# Altium footprint library TQFP.PcbLib: 14 footprints
Each footprint in its own frame and in the unit in brackets; x right, y up, seen from the top. Pads: shape width x height; smd on the part's side, far side on the other; paste and mask are expansions set on the pad; w line width, h text height; cw(c..) or ccw(c..) is an arc to the next point about the centre after c.
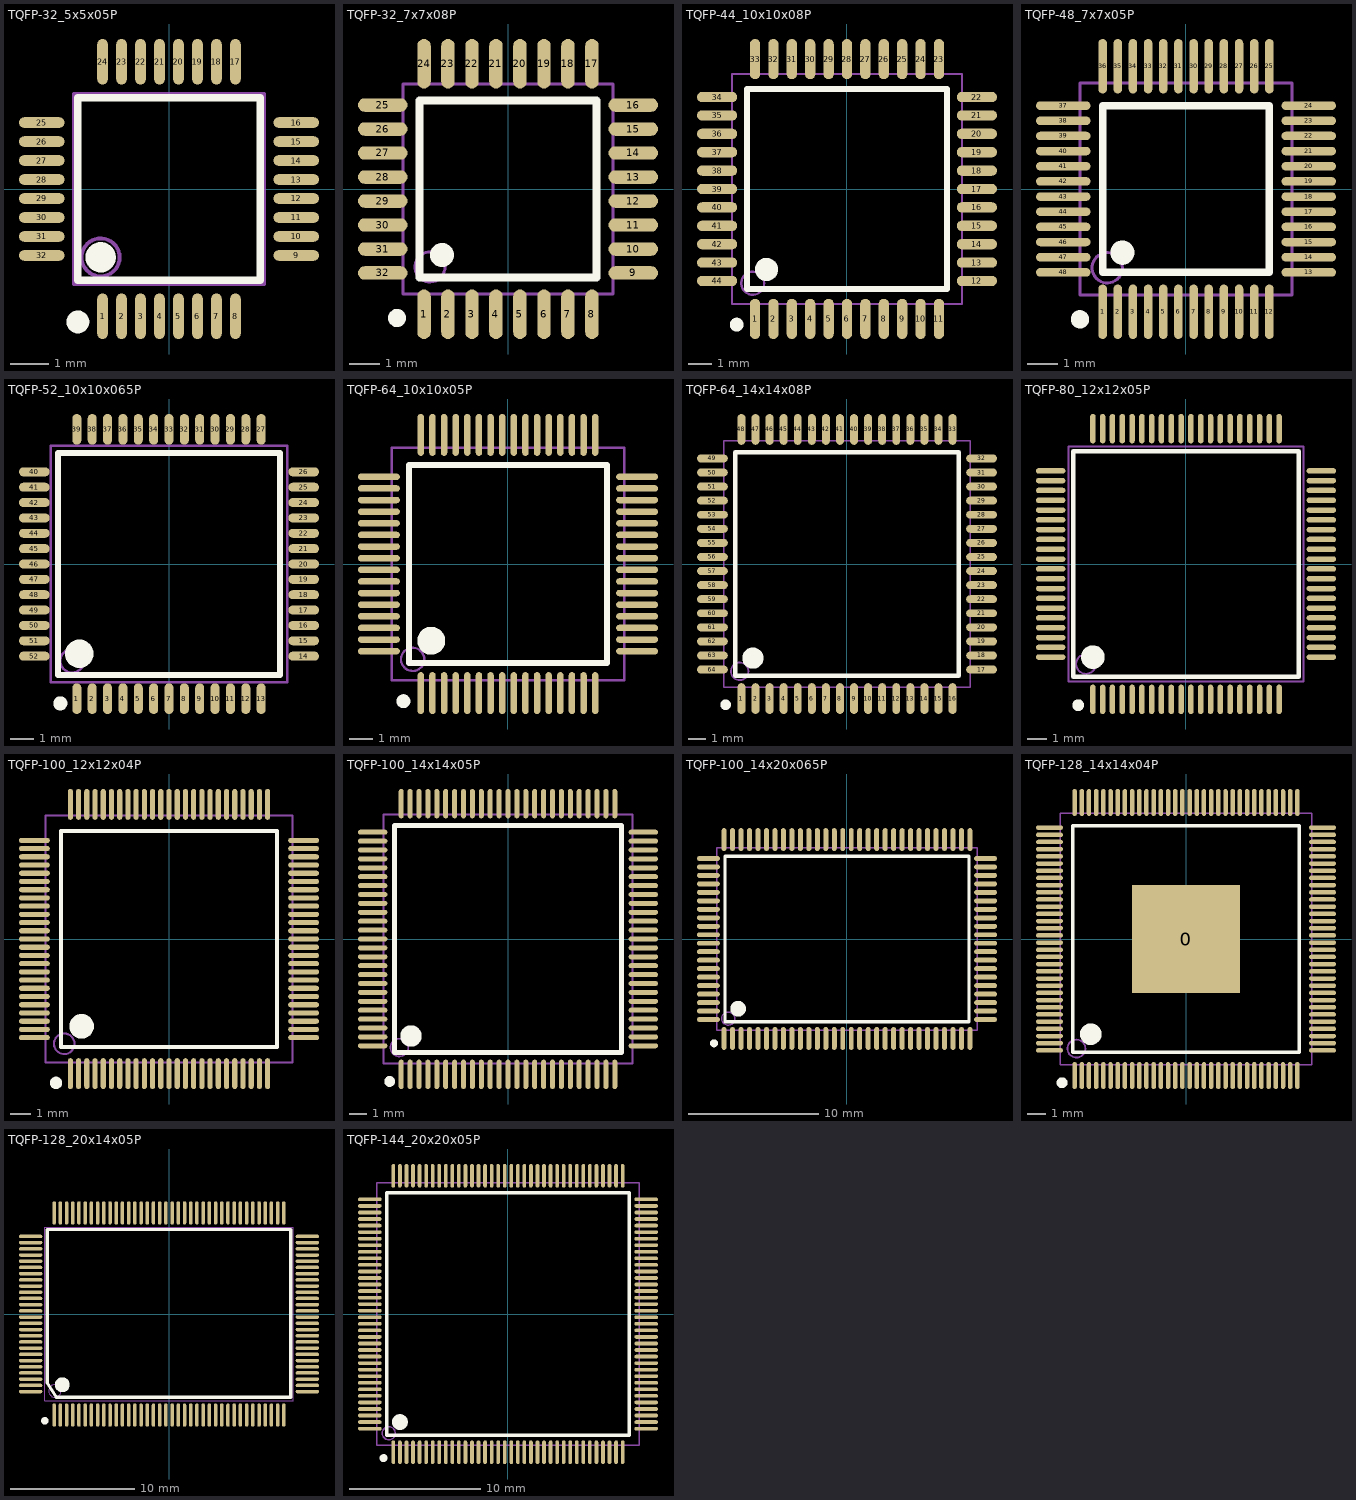
[diagram p0: the footprints below, top view; thin cyan lines are the x and y axes]

## TQFP-32_5x5x05P [mm]
pads (32):
  oval 0.28x1.2 smd mask+0.051: 1(-1.75,-3.35) 2(-1.25,-3.35) 3(-0.75,-3.35) 4(-0.25,-3.35) 5(0.25,-3.35) 6(0.75,-3.35) 7(1.25,-3.35) 8(1.75,-3.35) 17(1.75,3.35) 18(1.25,3.35) 19(0.75,3.35) 20(0.25,3.35) 21(-0.25,3.35) 22(-0.75,3.35) 23(-1.25,3.35) 24(-1.75,3.35)
  oval 1.2x0.28 smd mask+0.051: 9(3.35,-1.75) 10(3.35,-1.25) 11(3.35,-0.75) 12(3.35,-0.25) 13(3.35,0.25) 14(3.35,0.75) 15(3.35,1.25) 16(3.35,1.75) 25(-3.35,1.75) 26(-3.35,1.25) 27(-3.35,0.75) 28(-3.35,0.25) 29(-3.35,-0.25) 30(-3.35,-0.75) 31(-3.35,-1.25) 32(-3.35,-1.75)
Top Overlay:
  circle w0.3: c-2.4,-3.5 r0.15
  circle w0.4: c-1.8,-1.8 r0.2
  lines w0.2: -2.4,-2.4 -2.4,2.4 2.4,2.4 2.4,-2.4 -2.4,-2.4
Mechanical 13:
  circle w0.1: c-1.8,-1.8 r0.5
  lines w0.1: -2.5,-2.5 -2.5,2.5 2.5,2.5 2.5,-2.5 -2.5,-2.5

## TQFP-32_7x7x08P [mm]
pads (32):
  oval 0.45x1.65 smd: 1(-2.8,-4.175) 2(-2,-4.175) 3(-1.2,-4.175) 4(-0.4,-4.175) 5(0.4,-4.175) 6(1.2,-4.175) 7(2,-4.175) 8(2.8,-4.175) 17(2.8,4.175) 18(2,4.175) 19(1.2,4.175) 20(0.4,4.175) 21(-0.4,4.175) 22(-1.2,4.175) 23(-2,4.175) 24(-2.8,4.175)
  oval 1.65x0.45 smd: 9(4.175,-2.8) 10(4.175,-2) 11(4.175,-1.2) 12(4.175,-0.4) 13(4.175,0.4) 14(4.175,1.2) 15(4.175,2) 16(4.175,2.8) 25(-4.175,2.8) 26(-4.175,2) 27(-4.175,1.2) 28(-4.175,0.4) 29(-4.175,-0.4) 30(-4.175,-1.2) 31(-4.175,-2) 32(-4.175,-2.8)
Top Overlay:
  circle w0.4: c-2.2,-2.2 r0.2
  circle w0.3: c-3.7,-4.3 r0.15
  lines w0.254: -2.95,-2.95 2.95,-2.95 2.95,2.95 -2.95,2.95 -2.95,-2.95
Mechanical 13:
  circle w0.1: c-2.6,-2.6 r0.5
  lines w0.1: -3.5,-3.5 3.5,-3.5 3.5,3.5 -3.5,3.5 -3.5,-3.5
3D body "TQFP-9X9-32.STEP": height 1.6, standoff -0.05, extent -4.5,-4.5 4.5,4.5

## TQFP-44_10x10x08P [mm]
pads (44):
  oval 0.45x1.75 smd: 1(-4,-5.65) 2(-3.2,-5.65) 3(-2.4,-5.65) 4(-1.6,-5.65) 5(-0.8,-5.65) 6(0,-5.65) 7(0.8,-5.65) 8(1.6,-5.65) 9(2.4,-5.65) 10(3.2,-5.65) 11(4,-5.65) 23(4,5.65) 24(3.2,5.65) 25(2.4,5.65) 26(1.6,5.65) 27(0.8,5.65) 28(0,5.65) 29(-0.8,5.65) 30(-1.6,5.65) 31(-2.4,5.65) 32(-3.2,5.65) 33(-4,5.65)
  oval 1.75x0.45 smd: 12(5.65,-4) 13(5.65,-3.2) 14(5.65,-2.4) 15(5.65,-1.6) 16(5.65,-0.8) 17(5.65,0) 18(5.65,0.8) 19(5.65,1.6) 20(5.65,2.4) 21(5.65,3.2) 22(5.65,4) 34(-5.65,4) 35(-5.65,3.2) 36(-5.65,2.4) 37(-5.65,1.6) 38(-5.65,0.8) 39(-5.65,0) 40(-5.65,-0.8) 41(-5.65,-1.6) 42(-5.65,-2.4) 43(-5.65,-3.2) 44(-5.65,-4)
Top Overlay:
  circle w0.5: c-3.5,-3.5 r0.25
  circle w0.3: c-4.8,-5.9 r0.15
  lines w0.254: -4.35,-4.35 -4.35,4.35 4.35,4.35 4.35,-4.35 -4.35,-4.35
Mechanical 13:
  circle w0.1: c-4.1,-4.1 r0.5
  lines w0.1: -5,-5 -5,5 5,5 5,-5 -5,-5

## TQFP-48_7x7x05P [mm]
pads (48):
  oval 0.28x1.8 smd mask+0.051: 1(-2.75,-4.05) 2(-2.25,-4.05) 3(-1.75,-4.05) 4(-1.25,-4.05) 5(-0.75,-4.05) 6(-0.25,-4.05) 7(0.25,-4.05) 8(0.75,-4.05) 9(1.25,-4.05) 10(1.75,-4.05) 11(2.25,-4.05) 12(2.75,-4.05) 25(2.75,4.05) 26(2.25,4.05) 27(1.75,4.05) 28(1.25,4.05) 29(0.75,4.05) 30(0.25,4.05) 31(-0.25,4.05) 32(-0.75,4.05) 33(-1.25,4.05) 34(-1.75,4.05) 35(-2.25,4.05) 36(-2.75,4.05)
  oval 1.8x0.28 smd mask+0.051: 13(4.05,-2.75) 14(4.05,-2.25) 15(4.05,-1.75) 16(4.05,-1.25) 17(4.05,-0.75) 18(4.05,-0.25) 19(4.05,0.25) 20(4.05,0.75) 21(4.05,1.25) 22(4.05,1.75) 23(4.05,2.25) 24(4.05,2.75) 37(-4.05,2.75) 38(-4.05,2.25) 39(-4.05,1.75) 40(-4.05,1.25) 41(-4.05,0.75) 42(-4.05,0.25) 43(-4.05,-0.25) 44(-4.05,-0.75) 45(-4.05,-1.25) 46(-4.05,-1.75) 47(-4.05,-2.25) 48(-4.05,-2.75)
Top Overlay:
  circle w0.3: c-3.5,-4.3 r0.15
  circle w0.4: c-2.1,-2.1 r0.2
  lines w0.254: -2.75,-2.75 2.75,-2.75 2.75,2.75 -2.75,2.75 -2.75,-2.75
Mechanical 13:
  circle w0.1: c-2.6,-2.6 r0.5
  lines w0.1: -3.5,-3.5 3.5,-3.5 3.5,3.5 -3.5,3.5 -3.5,-3.5
3D body "QFP48P50_900X900X160L60X19.STEP": height 1.6, standoff 0, extent -4.5,-4.5 4.5,4.5

## TQFP-52_10x10x065P [mm]
pads (52):
  oval 0.38x1.3 smd mask+0.051: 1(-3.9,-5.7) 2(-3.25,-5.7) 3(-2.6,-5.7) 4(-1.95,-5.7) 5(-1.3,-5.7) 6(-0.65,-5.7) 7(0,-5.7) 8(0.65,-5.7) 9(1.3,-5.7) 10(1.95,-5.7) 11(2.6,-5.7) 12(3.25,-5.7) 13(3.9,-5.7) 27(3.9,5.7) 28(3.25,5.7) 29(2.6,5.7) 30(1.95,5.7) 31(1.3,5.7) 32(0.65,5.7) 33(0,5.7) 34(-0.65,5.7) 35(-1.3,5.7) 36(-1.95,5.7) 37(-2.6,5.7) 38(-3.25,5.7) 39(-3.9,5.7)
  oval 1.3x0.38 smd mask+0.051: 14(5.7,-3.9) 15(5.7,-3.25) 16(5.7,-2.6) 17(5.7,-1.95) 18(5.7,-1.3) 19(5.7,-0.65) 20(5.7,0) 21(5.7,0.65) 22(5.7,1.3) 23(5.7,1.95) 24(5.7,2.6) 25(5.7,3.25) 26(5.7,3.9) 40(-5.7,3.9) 41(-5.7,3.25) 42(-5.7,2.6) 43(-5.7,1.95) 44(-5.7,1.3) 45(-5.7,0.65) 46(-5.7,0) 47(-5.7,-0.65) 48(-5.7,-1.3) 49(-5.7,-1.95) 50(-5.7,-2.6) 51(-5.7,-3.25) 52(-5.7,-3.9)
Top Overlay:
  circle w0.6: c-3.8,-3.8 r0.3
  circle w0.3: c-4.6,-5.9 r0.15
  lines w0.254: -4.7,-4.7 4.7,-4.7 4.7,4.7 -4.7,4.7 -4.7,-4.7
Mechanical 13:
  circle w0.1: c-4.1,-4.1 r0.5
  lines w0.1: -5,-5 5,-5 5,5 -5,5 -5,-5

## TQFP-64_10x10x05P [mm]
pads (64):
  oval 0.28x1.8 smd mask+0.051: 1(-3.75,-5.55) 2(-3.25,-5.55) 3(-2.75,-5.55) 4(-2.25,-5.55) 5(-1.75,-5.55) 6(-1.25,-5.55) 7(-0.75,-5.55) 8(-0.25,-5.55) 9(0.25,-5.55) 10(0.75,-5.55) 11(1.25,-5.55) 12(1.75,-5.55) 13(2.25,-5.55) 14(2.75,-5.55) 15(3.25,-5.55) 16(3.75,-5.55) 33(3.75,5.55) 34(3.25,5.55) 35(2.75,5.55) 36(2.25,5.55) 37(1.75,5.55) 38(1.25,5.55) 39(0.75,5.55) 40(0.25,5.55) 41(-0.25,5.55) 42(-0.75,5.55) 43(-1.25,5.55) 44(-1.75,5.55) 45(-2.25,5.55) 46(-2.75,5.55) 47(-3.25,5.55) 48(-3.75,5.55)
  oval 1.8x0.28 smd mask+0.051: 17(5.55,-3.75) 18(5.55,-3.25) 19(5.55,-2.75) 20(5.55,-2.25) 21(5.55,-1.75) 22(5.55,-1.25) 23(5.55,-0.75) 24(5.55,-0.25) 25(5.55,0.25) 26(5.55,0.75) 27(5.55,1.25) 28(5.55,1.75) 29(5.55,2.25) 30(5.55,2.75) 31(5.55,3.25) 32(5.55,3.75) 49(-5.55,3.75) 50(-5.55,3.25) 51(-5.55,2.75) 52(-5.55,2.25) 53(-5.55,1.75) 54(-5.55,1.25) 55(-5.55,0.75) 56(-5.55,0.25) 57(-5.55,-0.25) 58(-5.55,-0.75) 59(-5.55,-1.25) 60(-5.55,-1.75) 61(-5.55,-2.25) 62(-5.55,-2.75) 63(-5.55,-3.25) 64(-5.55,-3.75)
Top Overlay:
  circle w0.3: c-4.5,-5.9 r0.15
  circle w0.6: c-3.3,-3.3 r0.3
  lines w0.254: -4.25,-4.25 -4.25,4.25 4.25,4.25 4.25,-4.25 -4.25,-4.25
Mechanical 13:
  circle w0.1: c-4.1,-4.1 r0.5
  lines w0.1: -5,-5 -5,5 5,5 5,-5 -5,-5
3D body "TQFP-64.STEP": height 1.1, standoff 0, extent -6.017,-6.009 6,6.009

## TQFP-64_14x14x08P [mm]
pads (64):
  oval 0.45x1.75 smd: 1(-6,-7.65) 2(-5.2,-7.65) 3(-4.4,-7.65) 4(-3.6,-7.65) 5(-2.8,-7.65) 6(-2,-7.65) 7(-1.2,-7.65) 8(-0.4,-7.65) 9(0.4,-7.65) 10(1.2,-7.65) 11(2,-7.65) 12(2.8,-7.65) 13(3.6,-7.65) 14(4.4,-7.65) 15(5.2,-7.65) 16(6,-7.65) 33(6,7.65) 34(5.2,7.65) 35(4.4,7.65) 36(3.6,7.65) 37(2.8,7.65) 38(2,7.65) 39(1.2,7.65) 40(0.4,7.65) 41(-0.4,7.65) 42(-1.2,7.65) 43(-2,7.65) 44(-2.8,7.65) 45(-3.6,7.65) 46(-4.4,7.65) 47(-5.2,7.65) 48(-6,7.65)
  oval 1.75x0.45 smd: 17(7.65,-6) 18(7.65,-5.2) 19(7.65,-4.4) 20(7.65,-3.6) 21(7.65,-2.8) 22(7.65,-2) 23(7.65,-1.2) 24(7.65,-0.4) 25(7.65,0.4) 26(7.65,1.2) 27(7.65,2) 28(7.65,2.8) 29(7.65,3.6) 30(7.65,4.4) 31(7.65,5.2) 32(7.65,6) 49(-7.65,6) 50(-7.65,5.2) 51(-7.65,4.4) 52(-7.65,3.6) 53(-7.65,2.8) 54(-7.65,2) 55(-7.65,1.2) 56(-7.65,0.4) 57(-7.65,-0.4) 58(-7.65,-1.2) 59(-7.65,-2) 60(-7.65,-2.8) 61(-7.65,-3.6) 62(-7.65,-4.4) 63(-7.65,-5.2) 64(-7.65,-6)
Top Overlay:
  circle w0.3: c-6.9,-8 r0.15
  circle w0.6: c-5.35,-5.35 r0.3
  lines w0.254: -6.35,-6.35 -6.35,6.35 6.35,6.35 6.35,-6.35 -6.35,-6.35
Mechanical 13:
  circle w0.1: c-6.1,-6.1 r0.5
  lines w0.1: -7,-7 -7,7 7,7 7,-7 -7,-7

## TQFP-80_12x12x05P [mm]
pads (81):
  oval 0.28x1.5 smd mask+0.051: 1(-4.75,-6.9) 2(-4.25,-6.9) 3(-3.75,-6.9) 4(-3.25,-6.9) 5(-2.75,-6.9) 6(-2.25,-6.9) 7(-1.75,-6.9) 8(-1.25,-6.9) 9(-0.75,-6.9) 10(-0.25,-6.9) 11(0.25,-6.9) 12(0.75,-6.9) 13(1.25,-6.9) 14(1.75,-6.9) 15(2.25,-6.9) 16(2.75,-6.9) 17(3.25,-6.9) 18(3.75,-6.9) 19(4.25,-6.9) 20(4.75,-6.9) 41(4.75,6.9) 42(4.25,6.9) 43(3.75,6.9) 44(3.25,6.9) 45(2.75,6.9) 46(2.25,6.9) 47(1.75,6.9) 48(1.25,6.9) 49(0.75,6.9) 50(0.25,6.9) 51(-0.25,6.9) 52(-0.75,6.9) 53(-1.25,6.9) 54(-1.75,6.9) 55(-2.25,6.9) 56(-2.75,6.9) 57(-3.25,6.9) 58(-3.75,6.9) 59(-4.25,6.9) 60(-4.75,6.9)
  oval 1.5x0.28 smd mask+0.051: 21(6.9,-4.75) 22(6.9,-4.25) 23(6.9,-3.75) 24(6.9,-3.25) 25(6.9,-2.75) 26(6.9,-2.25) 27(6.9,-1.75) 28(6.9,-1.25) 29(6.9,-0.75) 30(6.9,-0.25) 31(6.9,0.25) 32(6.9,0.75) 33(6.9,1.25) 34(6.9,1.75) 35(6.9,2.25) 36(6.9,2.75) 37(6.9,3.25) 38(6.9,3.75) 39(6.9,4.25) 40(6.9,4.75) 61(-6.9,4.75) 62(-6.9,4.25) 63(-6.9,3.75) 64(-6.9,3.25) 65(-6.9,2.75) 66(-6.9,2.25) 67(-6.9,1.75) 68(-6.9,1.25) 69(-6.9,0.75) 70(-6.9,0.25) 71(-6.9,-0.25) 72(-6.9,-0.75) 73(-6.9,-1.25) 74(-6.9,-1.75) 75(-6.9,-2.25) 76(-6.9,-2.75) 77(-6.9,-3.25) 78(-6.9,-3.75) 79(-6.9,-4.25) 80(-6.9,-4.75)
  oval 1.5x0 smd mask+0.051: 74(-6.9,-1.75)
Top Overlay:
  circle w0.3: c-5.5,-7.2 r0.15
  circle w0.6: c-4.75,-4.75 r0.3
  lines w0.254: -5.75,-5.75 -5.75,5.75 5.75,5.75 5.75,-5.75 -5.75,-5.75
Mechanical 13:
  circle w0.1: c-5.1,-5.1 r0.5
  lines w0.1: -6,-6 -6,6 6,6 6,-6 -6,-6

## TQFP-100_12x12x04P [mm]
pads (100):
  oval 0.25x1.5 smd mask+0.051: 1(-4.8,-6.55) 2(-4.4,-6.55) 3(-4,-6.55) 4(-3.6,-6.55) 5(-3.2,-6.55) 6(-2.8,-6.55) 7(-2.4,-6.55) 8(-2,-6.55) 9(-1.6,-6.55) 10(-1.2,-6.55) 11(-0.8,-6.55) 12(-0.4,-6.55) 13(0,-6.55) 14(0.4,-6.55) 15(0.8,-6.55) 16(1.2,-6.55) 17(1.6,-6.55) 18(2,-6.55) 19(2.4,-6.55) 20(2.8,-6.55) 21(3.2,-6.55) 22(3.6,-6.55) 23(4,-6.55) 24(4.4,-6.55) 25(4.8,-6.55) 51(4.8,6.55) 52(4.4,6.55) 53(4,6.55) 54(3.6,6.55) 55(3.2,6.55) 56(2.8,6.55) 57(2.4,6.55) 58(2,6.55) 59(1.6,6.55) 60(1.2,6.55) 61(0.8,6.55) 62(0.4,6.55) 63(0,6.55) 64(-0.4,6.55) 65(-0.8,6.55) 66(-1.2,6.55) 67(-1.6,6.55) 68(-2,6.55) 69(-2.4,6.55) 70(-2.8,6.55) 71(-3.2,6.55) 72(-3.6,6.55) 73(-4,6.55) 74(-4.4,6.55) 75(-4.8,6.55)
  oval 1.5x0.25 smd mask+0.051: 26(6.55,-4.8) 27(6.55,-4.4) 28(6.55,-4) 29(6.55,-3.6) 30(6.55,-3.2) 31(6.55,-2.8) 32(6.55,-2.4) 33(6.55,-2) 34(6.55,-1.6) 35(6.55,-1.2) 36(6.55,-0.8) 37(6.55,-0.4) 38(6.55,0) 39(6.55,0.4) 40(6.55,0.8) 41(6.55,1.2) 42(6.55,1.6) 43(6.55,2) 44(6.55,2.4) 45(6.55,2.8) 46(6.55,3.2) 47(6.55,3.6) 48(6.55,4) 49(6.55,4.4) 50(6.55,4.8) 76(-6.55,4.8) 77(-6.55,4.4) 78(-6.55,4) 79(-6.55,3.6) 80(-6.55,3.2) 81(-6.55,2.8) 82(-6.55,2.4) 83(-6.55,2) 84(-6.55,1.6) 85(-6.55,1.2) 86(-6.55,0.8) 87(-6.55,0.4) 88(-6.55,0) 89(-6.55,-0.4) 90(-6.55,-0.8) 91(-6.55,-1.2) 92(-6.55,-1.6) 93(-6.55,-2) 94(-6.55,-2.4) 95(-6.55,-2.8) 96(-6.55,-3.2) 97(-6.55,-3.6) 98(-6.55,-4) 99(-6.55,-4.4) 100(-6.55,-4.8)
Top Overlay:
  circle w0.6: c-4.25,-4.25 r0.3
  circle w0.3: c-5.5,-7 r0.15
  lines w0.2: -5.25,-5.25 5.25,-5.25 5.25,5.25 -5.25,5.25 -5.25,-5.25
Mechanical 13:
  circle w0.1: c-5.1,-5.1 r0.5
  lines w0.1: -6,-6 6,-6 6,6 -6,6 -6,-6

## TQFP-100_14x14x05P [mm]
pads (100):
  oval 0.28x1.65 smd mask+0.051: 1(-6,-7.6) 2(-5.5,-7.6) 3(-5,-7.6) 4(-4.5,-7.6) 5(-4,-7.6) 6(-3.5,-7.6) 7(-3,-7.6) 8(-2.5,-7.6) 9(-2,-7.6) 10(-1.5,-7.6) 11(-1,-7.6) 12(-0.5,-7.6) 13(0,-7.6) 14(0.5,-7.6) 15(1,-7.6) 16(1.5,-7.6) 17(2,-7.6) 18(2.5,-7.6) 19(3,-7.6) 20(3.5,-7.6) 21(4,-7.6) 22(4.5,-7.6) 23(5,-7.6) 24(5.5,-7.6) 25(6,-7.6) 51(6,7.6) 52(5.5,7.6) 53(5,7.6) 54(4.5,7.6) 55(4,7.6) 56(3.5,7.6) 57(3,7.6) 58(2.5,7.6) 59(2,7.6) 60(1.5,7.6) 61(1,7.6) 62(0.5,7.6) 63(0,7.6) 64(-0.5,7.6) 65(-1,7.6) 66(-1.5,7.6) 67(-2,7.6) 68(-2.5,7.6) 69(-3,7.6) 70(-3.5,7.6) 71(-4,7.6) 72(-4.5,7.6) 73(-5,7.6) 74(-5.5,7.6) 75(-6,7.6)
  oval 1.65x0.28 smd mask+0.051: 26(7.6,-6) 27(7.6,-5.5) 28(7.6,-5) 29(7.6,-4.5) 30(7.6,-4) 31(7.6,-3.5) 32(7.6,-3) 33(7.6,-2.5) 34(7.6,-2) 35(7.6,-1.5) 36(7.6,-1) 37(7.6,-0.5) 38(7.6,0) 39(7.6,0.5) 40(7.6,1) 41(7.6,1.5) 42(7.6,2) 43(7.6,2.5) 44(7.6,3) 45(7.6,3.5) 46(7.6,4) 47(7.6,4.5) 48(7.6,5) 49(7.6,5.5) 50(7.6,6) 76(-7.6,6) 77(-7.6,5.5) 78(-7.6,5) 79(-7.6,4.5) 80(-7.6,4) 81(-7.6,3.5) 82(-7.6,3) 83(-7.6,2.5) 84(-7.6,2) 85(-7.6,1.5) 86(-7.6,1) 87(-7.6,0.5) 88(-7.6,0) 89(-7.6,-0.5) 90(-7.6,-1) 91(-7.6,-1.5) 92(-7.6,-2) 93(-7.6,-2.5) 94(-7.6,-3) 95(-7.6,-3.5) 96(-7.6,-4) 97(-7.6,-4.5) 98(-7.6,-5) 99(-7.6,-5.5) 100(-7.6,-6)
Top Overlay:
  circle w0.3: c-6.65,-8 r0.15
  circle w0.6: c-5.45,-5.45 r0.3
  lines w0.254: -6.375,-6.375 6.375,-6.375 6.375,6.375 -6.375,6.375 -6.375,-6.375
Mechanical 13:
  circle w0.1: c-6.1,-6.1 r0.5
  lines w0.1: -7,-7 7,-7 7,7 -7,7 -7,-7

## TQFP-100_14x20x065P [mm]
pads (100):
  oval 0.38x1.75 smd mask+0.051: 1(-9.425,-7.625) 2(-8.775,-7.625) 3(-8.125,-7.625) 4(-7.475,-7.625) 5(-6.825,-7.625) 6(-6.175,-7.625) 7(-5.525,-7.625) 8(-4.875,-7.625) 9(-4.225,-7.625) 10(-3.575,-7.625) 11(-2.925,-7.625) 12(-2.275,-7.625) 13(-1.625,-7.625) 14(-0.975,-7.625) 15(-0.325,-7.625) 16(0.325,-7.625) 17(0.975,-7.625) 18(1.625,-7.625) 19(2.275,-7.625) 20(2.925,-7.625) 21(3.575,-7.625) 22(4.225,-7.625) 23(4.875,-7.625) 24(5.525,-7.625) 25(6.175,-7.625) 26(6.825,-7.625) 27(7.475,-7.625) 28(8.125,-7.625) 29(8.775,-7.625) 30(9.425,-7.625) 51(9.425,7.625) 52(8.775,7.625) 53(8.125,7.625) 54(7.475,7.625) 55(6.825,7.625) 56(6.175,7.625) 57(5.525,7.625) 58(4.875,7.625) 59(4.225,7.625) 60(3.575,7.625) 61(2.925,7.625) 62(2.275,7.625) 63(1.625,7.625) 64(0.975,7.625) 65(0.325,7.625) 66(-0.325,7.625) 67(-0.975,7.625) 68(-1.625,7.625) 69(-2.275,7.625) 70(-2.925,7.625) 71(-3.575,7.625) 72(-4.225,7.625) 73(-4.875,7.625) 74(-5.525,7.625) 75(-6.175,7.625) 76(-6.825,7.625) 77(-7.475,7.625) 78(-8.125,7.625) 79(-8.775,7.625) 80(-9.425,7.625)
  oval 1.75x0.38 smd mask+0.051: 31(10.625,-6.175) 32(10.625,-5.525) 33(10.625,-4.875) 34(10.625,-4.225) 35(10.625,-3.575) 36(10.625,-2.925) 37(10.625,-2.275) 38(10.625,-1.625) 39(10.625,-0.975) 40(10.625,-0.325) 41(10.625,0.325) 42(10.625,0.975) 43(10.625,1.625) 44(10.625,2.275) 45(10.625,2.925) 46(10.625,3.575) 47(10.625,4.225) 48(10.625,4.875) 49(10.625,5.525) 50(10.625,6.175) 81(-10.625,6.175) 82(-10.625,5.525) 83(-10.625,4.875) 84(-10.625,4.225) 85(-10.625,3.575) 86(-10.625,2.925) 87(-10.625,2.275) 88(-10.625,1.625) 89(-10.625,0.975) 90(-10.625,0.325) 91(-10.625,-0.325) 92(-10.625,-0.975) 93(-10.625,-1.625) 94(-10.625,-2.275) 95(-10.625,-2.925) 96(-10.625,-3.575) 97(-10.625,-4.225) 98(-10.625,-4.875) 99(-10.625,-5.525) 100(-10.625,-6.175)
Top Overlay:
  circle w0.6: c-8.35,-5.35 r0.3
  circle w0.3: c-10.2,-8 r0.15
  lines w0.254: -9.35,-6.35 -9.35,6.35 9.35,6.35 9.35,-6.35 -9.35,-6.35
Mechanical 13:
  circle w0.1: c-9.1,-6.1 r0.5
  lines w0.1: -10,-7 -10,7 10,7 10,-7 -10,-7

## TQFP-128_14x14x04P [mm]
pads (129):
  rect 6x6 smd mask+0.051: 0(0,0)
  oval 0.25x1.5 smd mask+0.051: 1(-6.2,-7.6) 2(-5.8,-7.6) 3(-5.4,-7.6) 4(-5,-7.6) 5(-4.6,-7.6) 6(-4.2,-7.6) 7(-3.8,-7.6) 8(-3.4,-7.6) 9(-3,-7.6) 10(-2.6,-7.6) 11(-2.2,-7.6) 12(-1.8,-7.6) 13(-1.4,-7.6) 14(-1,-7.6) 15(-0.6,-7.6) 16(-0.2,-7.6) 17(0.2,-7.6) 18(0.6,-7.6) 19(1,-7.6) 20(1.4,-7.6) 21(1.8,-7.6) 22(2.2,-7.6) 23(2.6,-7.6) 24(3,-7.6) 25(3.4,-7.6) 26(3.8,-7.6) 27(4.2,-7.6) 28(4.6,-7.6) 29(5,-7.6) 30(5.4,-7.6) 31(5.8,-7.6) 32(6.2,-7.6) 65(6.2,7.6) 66(5.8,7.6) 67(5.4,7.6) 68(5,7.6) 69(4.6,7.6) 70(4.2,7.6) 71(3.8,7.6) 72(3.4,7.6) 73(3,7.6) 74(2.6,7.6) 75(2.2,7.6) 76(1.8,7.6) 77(1.4,7.6) 78(1,7.6) 79(0.6,7.6) 80(0.2,7.6) 81(-0.2,7.6) 82(-0.6,7.6) 83(-1,7.6) 84(-1.4,7.6) 85(-1.8,7.6) 86(-2.2,7.6) 87(-2.6,7.6) 88(-3,7.6) 89(-3.4,7.6) 90(-3.8,7.6) 91(-4.2,7.6) 92(-4.6,7.6) 93(-5,7.6) 94(-5.4,7.6) 95(-5.8,7.6) 96(-6.2,7.6)
  oval 1.5x0.25 smd mask+0.051: 33(7.6,-6.2) 34(7.6,-5.8) 35(7.6,-5.4) 36(7.6,-5) 37(7.6,-4.6) 38(7.6,-4.2) 39(7.6,-3.8) 40(7.6,-3.4) 41(7.6,-3) 42(7.6,-2.6) 43(7.6,-2.2) 44(7.6,-1.8) 45(7.6,-1.4) 46(7.6,-1) 47(7.6,-0.6) 48(7.6,-0.2) 49(7.6,0.2) 50(7.6,0.6) 51(7.6,1) 52(7.6,1.4) 53(7.6,1.8) 54(7.6,2.2) 55(7.6,2.6) 56(7.6,3) 57(7.6,3.4) 58(7.6,3.8) 59(7.6,4.2) 60(7.6,4.6) 61(7.6,5) 62(7.6,5.4) 63(7.6,5.8) 64(7.6,6.2) 97(-7.6,6.2) 98(-7.6,5.8) 99(-7.6,5.4) 100(-7.6,5) 101(-7.6,4.6) 102(-7.6,4.2) 103(-7.6,3.8) 104(-7.6,3.4) 105(-7.6,3) 106(-7.6,2.6) 107(-7.6,2.2) 108(-7.6,1.8) 109(-7.6,1.4) 110(-7.6,1) 111(-7.6,0.6) 112(-7.6,0.2) 113(-7.6,-0.2) 114(-7.6,-0.6) 115(-7.6,-1) 116(-7.6,-1.4) 117(-7.6,-1.8) 118(-7.6,-2.2) 119(-7.6,-2.6) 120(-7.6,-3) 121(-7.6,-3.4) 122(-7.6,-3.8) 123(-7.6,-4.2) 124(-7.6,-4.6) 125(-7.6,-5) 126(-7.6,-5.4) 127(-7.6,-5.8) 128(-7.6,-6.2)
Top Overlay:
  circle w0.6: c-5.3,-5.3 r0.3
  circle w0.3: c-6.9,-8 r0.15
  lines w0.2: -6.3,-6.3 -6.3,6.3 6.3,6.3 6.3,-6.3 -6.3,-6.3
Mechanical 13:
  circle w0.1: c-6.1,-6.1 r0.5
  lines w0.1: -7,-7 -7,7 7,7 7,-7 -7,-7

## TQFP-128_20x14x05P [mm]
pads (128):
  oval 0.28x1.88 smd mask+0.051: 1(-9.25,-8.14) 2(-8.75,-8.14) 3(-8.25,-8.14) 4(-7.75,-8.14) 5(-7.25,-8.14) 6(-6.75,-8.14) 7(-6.25,-8.14) 8(-5.75,-8.14) 9(-5.25,-8.14) 10(-4.75,-8.14) 11(-4.25,-8.14) 12(-3.75,-8.14) 13(-3.25,-8.14) 14(-2.75,-8.14) 15(-2.25,-8.14) 16(-1.75,-8.14) 17(-1.25,-8.14) 18(-0.75,-8.14) 19(-0.25,-8.14) 20(0.25,-8.14) 21(0.75,-8.14) 22(1.25,-8.14) 23(1.75,-8.14) 24(2.25,-8.14) 25(2.75,-8.14) 26(3.25,-8.14) 27(3.75,-8.14) 28(4.25,-8.14) 29(4.75,-8.14) 30(5.25,-8.14) 31(5.75,-8.14) 32(6.25,-8.14) 33(6.75,-8.14) 34(7.25,-8.14) 35(7.75,-8.14) 36(8.25,-8.14) 37(8.75,-8.14) 38(9.25,-8.14) 65(9.25,8.14) 66(8.75,8.14) 67(8.25,8.14) 68(7.75,8.14) 69(7.25,8.14) 70(6.75,8.14) 71(6.25,8.14) 72(5.75,8.14) 73(5.25,8.14) 74(4.75,8.14) 75(4.25,8.14) 76(3.75,8.14) 77(3.25,8.14) 78(2.75,8.14) 79(2.25,8.14) 80(1.75,8.14) 81(1.25,8.14) 82(0.75,8.14) 83(0.25,8.14) 84(-0.25,8.14) 85(-0.75,8.14) 86(-1.25,8.14) 87(-1.75,8.14) 88(-2.25,8.14) 89(-2.75,8.14) 90(-3.25,8.14) 91(-3.75,8.14) 92(-4.25,8.14) 93(-4.75,8.14) 94(-5.25,8.14) 95(-5.75,8.14) 96(-6.25,8.14) 97(-6.75,8.14) 98(-7.25,8.14) 99(-7.75,8.14) 100(-8.25,8.14) 101(-8.75,8.14) 102(-9.25,8.14)
  oval 1.88x0.28 smd mask+0.051: 39(11.14,-6.25) 40(11.14,-5.75) 41(11.14,-5.25) 42(11.14,-4.75) 43(11.14,-4.25) 44(11.14,-3.75) 45(11.14,-3.25) 46(11.14,-2.75) 47(11.14,-2.25) 48(11.14,-1.75) 49(11.14,-1.25) 50(11.14,-0.75) 51(11.14,-0.25) 52(11.14,0.25) 53(11.14,0.75) 54(11.14,1.25) 55(11.14,1.75) 56(11.14,2.25) 57(11.14,2.75) 58(11.14,3.25) 59(11.14,3.75) 60(11.14,4.25) 61(11.14,4.75) 62(11.14,5.25) 63(11.14,5.75) 64(11.14,6.25) 103(-11.14,6.25) 104(-11.14,5.75) 105(-11.14,5.25) 106(-11.14,4.75) 107(-11.14,4.25) 108(-11.14,3.75) 109(-11.14,3.25) 110(-11.14,2.75) 111(-11.14,2.25) 112(-11.14,1.75) 113(-11.14,1.25) 114(-11.14,0.75) 115(-11.14,0.25) 116(-11.14,-0.25) 117(-11.14,-0.75) 118(-11.14,-1.25) 119(-11.14,-1.75) 120(-11.14,-2.25) 121(-11.14,-2.75) 122(-11.14,-3.25) 123(-11.14,-3.75) 124(-11.14,-4.25) 125(-11.14,-4.75) 126(-11.14,-5.25) 127(-11.14,-5.75) 128(-11.14,-6.25)
Top Overlay:
  circle w0.6: c-8.6,-5.7 r0.3
  circle w0.3: c-10,-8.6 r0.15
  lines w0.254: -9.8,-5.56 -9.087,-6.7 9.8,-6.7 9.8,6.8 -9.8,6.8 -9.8,-5.56
Mechanical 13:
  circle w0.1: c-9.2,-6.2 r0.5
  lines w0.1: -10,-7 10,-7 10,7 -10,7 -10,-7

## TQFP-144_20x20x05P [mm]
pads (144):
  oval 0.28x1.8 smd mask+0.051: 1(-8.75,-10.55) 2(-8.25,-10.55) 3(-7.75,-10.55) 4(-7.25,-10.55) 5(-6.75,-10.55) 6(-6.25,-10.55) 7(-5.75,-10.55) 8(-5.25,-10.55) 9(-4.75,-10.55) 10(-4.25,-10.55) 11(-3.75,-10.55) 12(-3.25,-10.55) 13(-2.75,-10.55) 14(-2.25,-10.55) 15(-1.75,-10.55) 16(-1.25,-10.55) 17(-0.75,-10.55) 18(-0.25,-10.55) 19(0.25,-10.55) 20(0.75,-10.55) 21(1.25,-10.55) 22(1.75,-10.55) 23(2.25,-10.55) 24(2.75,-10.55) 25(3.25,-10.55) 26(3.75,-10.55) 27(4.25,-10.55) 28(4.75,-10.55) 29(5.25,-10.55) 30(5.75,-10.55) 31(6.25,-10.55) 32(6.75,-10.55) 33(7.25,-10.55) 34(7.75,-10.55) 35(8.25,-10.55) 36(8.75,-10.55) 73(8.75,10.55) 74(8.25,10.55) 75(7.75,10.55) 76(7.25,10.55) 77(6.75,10.55) 78(6.25,10.55) 79(5.75,10.55) 80(5.25,10.55) 81(4.75,10.55) 82(4.25,10.55) 83(3.75,10.55) 84(3.25,10.55) 85(2.75,10.55) 86(2.25,10.55) 87(1.75,10.55) 88(1.25,10.55) 89(0.75,10.55) 90(0.25,10.55) 91(-0.25,10.55) 92(-0.75,10.55) 93(-1.25,10.55) 94(-1.75,10.55) 95(-2.25,10.55) 96(-2.75,10.55) 97(-3.25,10.55) 98(-3.75,10.55) 99(-4.25,10.55) 100(-4.75,10.55) 101(-5.25,10.55) 102(-5.75,10.55) 103(-6.25,10.55) 104(-6.75,10.55) 105(-7.25,10.55) 106(-7.75,10.55) 107(-8.25,10.55) 108(-8.75,10.55)
  oval 1.8x0.28 smd mask+0.051: 37(10.55,-8.75) 38(10.55,-8.25) 39(10.55,-7.75) 40(10.55,-7.25) 41(10.55,-6.75) 42(10.55,-6.25) 43(10.55,-5.75) 44(10.55,-5.25) 45(10.55,-4.75) 46(10.55,-4.25) 47(10.55,-3.75) 48(10.55,-3.25) 49(10.55,-2.75) 50(10.55,-2.25) 51(10.55,-1.75) 52(10.55,-1.25) 53(10.55,-0.75) 54(10.55,-0.25) 55(10.55,0.25) 56(10.55,0.75) 57(10.55,1.25) 58(10.55,1.75) 59(10.55,2.25) 60(10.55,2.75) 61(10.55,3.25) 62(10.55,3.75) 63(10.55,4.25) 64(10.55,4.75) 65(10.55,5.25) 66(10.55,5.75) 67(10.55,6.25) 68(10.55,6.75) 69(10.55,7.25) 70(10.55,7.75) 71(10.55,8.25) 72(10.55,8.75) 109(-10.55,8.75) 110(-10.55,8.25) 111(-10.55,7.75) 112(-10.55,7.25) 113(-10.55,6.75) 114(-10.55,6.25) 115(-10.55,5.75) 116(-10.55,5.25) 117(-10.55,4.75) 118(-10.55,4.25) 119(-10.55,3.75) 120(-10.55,3.25) 121(-10.55,2.75) 122(-10.55,2.25) 123(-10.55,1.75) 124(-10.55,1.25) 125(-10.55,0.75) 126(-10.55,0.25) 127(-10.55,-0.25) 128(-10.55,-0.75) 129(-10.55,-1.25) 130(-10.55,-1.75) 131(-10.55,-2.25) 132(-10.55,-2.75) 133(-10.55,-3.25) 134(-10.55,-3.75) 135(-10.55,-4.25) 136(-10.55,-4.75) 137(-10.55,-5.25) 138(-10.55,-5.75) 139(-10.55,-6.25) 140(-10.55,-6.75) 141(-10.55,-7.25) 142(-10.55,-7.75) 143(-10.55,-8.25) 144(-10.55,-8.75)
Top Overlay:
  circle w0.3: c-9.5,-11 r0.15
  circle w0.6: c-8.25,-8.25 r0.3
  lines w0.254: -9.25,-9.25 9.25,-9.25 9.25,9.25 -9.25,9.25 -9.25,-9.25
Mechanical 13:
  circle w0.1: c-9.1,-9.1 r0.5
  lines w0.1: -10,-10 10,-10 10,10 -10,10 -10,-10